# Altium footprint library PAD_3mm.PcbLib: 1 footprints
Each footprint in its own frame and in the unit in brackets; x right, y up, seen from the top. Pads: shape width x height; smd on the part's side, far side on the other; paste and mask are expansions set on the pad; w line width, h text height; cw(c..) or ccw(c..) is an arc to the next point about the centre after c.
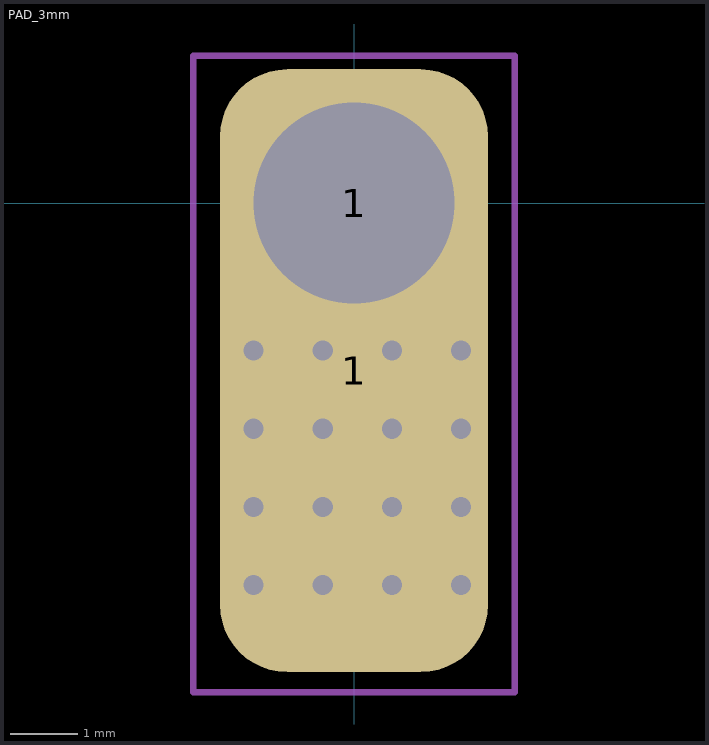
[diagram p0: the footprint, top view; thin cyan lines are the x and y axes]

## PAD_3mm [mm]
pads (2):
  rrect50% 4x9 smd: 1(0,-2.5)
  rrect50% 3.5x3.5 hole 3: 1(0,0)
via 0.567,-2.2 diameter 0.6 hole 0.3
via 0.567,-3.367 diameter 0.6 hole 0.3
via 0.567,-4.533 diameter 0.6 hole 0.3
via 0.567,-5.7 diameter 0.6 hole 0.3
via -0.467,-2.2 diameter 0.6 hole 0.3
via -0.467,-3.367 diameter 0.6 hole 0.3
via -0.467,-4.533 diameter 0.6 hole 0.3
via -0.467,-5.7 diameter 0.6 hole 0.3
via -1.5,-2.2 diameter 0.6 hole 0.3
via 1.6,-2.2 diameter 0.6 hole 0.3
via 1.6,-3.367 diameter 0.6 hole 0.3
via -1.5,-3.367 diameter 0.6 hole 0.3
via 1.6,-4.533 diameter 0.6 hole 0.3
via -1.5,-4.533 diameter 0.6 hole 0.3
via 1.6,-5.7 diameter 0.6 hole 0.3
via -1.5,-5.7 diameter 0.6 hole 0.3
Mechanical 1:
  lines w0.1: -2.4,-7.3 2.4,-7.3 2.4,2.2 -2.4,2.2 -2.4,-7.3